# EAGLE library part 25*256 (library Microchip)
256K-bit SPI Bus Serial EEPROM
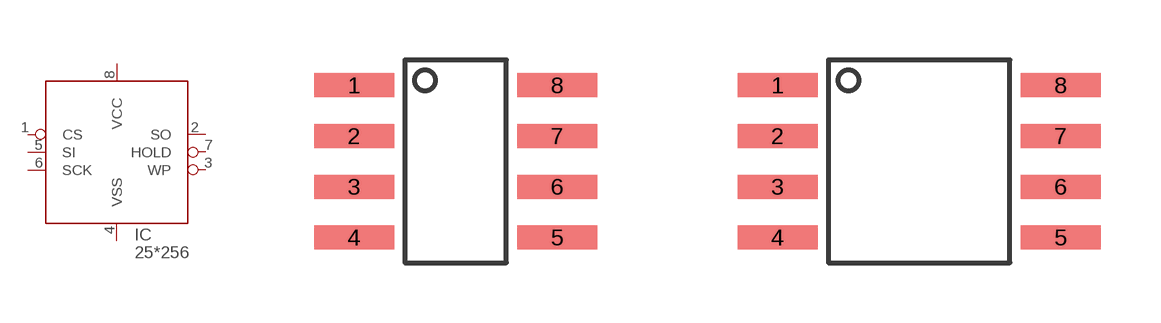
[diagram p23: symbol with the pads of SOIC8-SN; footprints SOIC8-SN, SOIJ8-SM]

Designator prefix IC

## 25256-SN, 25AA256-SN, 25LC256-SN  [SOIC8-SN]
1  CS
2  SO
3  WP
4  VSS
5  SI
6  SCK
7  HOLD
8  VCC

## 25256-SM  [SOIJ8-SM]
Pads as for SOIC8-SN

## 25256-P  [DIP-8C]
Pads as for SOIC8-SN

## 25256-ST  [TSSOP8-ST]
Pads as for SOIC8-SN

## Footprint SOIC8-SN (pad centres in mm)
8-Lead Plastic Small Outline (SN) - Narrow, 3.90 mm body (SOIC)
smd 2 x 0.6: 1 -2.54,1.905; 2 -2.54,0.635; 3 -2.54,-0.635; 4 -2.54,-1.905; 5 2.54,-1.905; 6 2.54,-0.635; 7 2.54,0.635; 8 2.54,1.905

## Footprint SOIJ8-SM (pad centres in mm)
8-Lead Plastic Small Outline (SM) - Medium, 208mil Body (SOIJ)
smd 2 x 0.6: 1 -3.54,1.905; 2 -3.54,0.635; 3 -3.54,-0.635; 4 -3.54,-1.905; 5 3.54,-1.905; 6 3.54,-0.635; 7 3.54,0.635; 8 3.54,1.905

## Footprint DIP-8C (pad centres in mm)
drill 0.889 square: 1 -3.81,3.81
drill 0.889 round: 2 -3.81,1.27; 3 -3.81,-1.27; 4 -3.81,-3.81; 5 3.81,-3.81; 6 3.81,-1.27; 7 3.81,1.27; 8 3.81,3.81

## Footprint TSSOP8-ST (pad centres in mm)
8-Lead Plastic Thin Shrink Small Outline (ST) - 4.4mm Body [TSSOP]
smd 0.3 x 1.2: 1 -0.975,-3.1; 2 -0.325,-3.1; 3 0.325,-3.1; 4 0.975,-3.1; 5 0.975,3.1; 6 0.325,3.1; 7 -0.325,3.1; 8 -0.975,3.1